# Altium schematic symbol library FS_Components.SchLib: 71 symbols
Pins are listed as number, name and electrical type; pins without a type are passive.

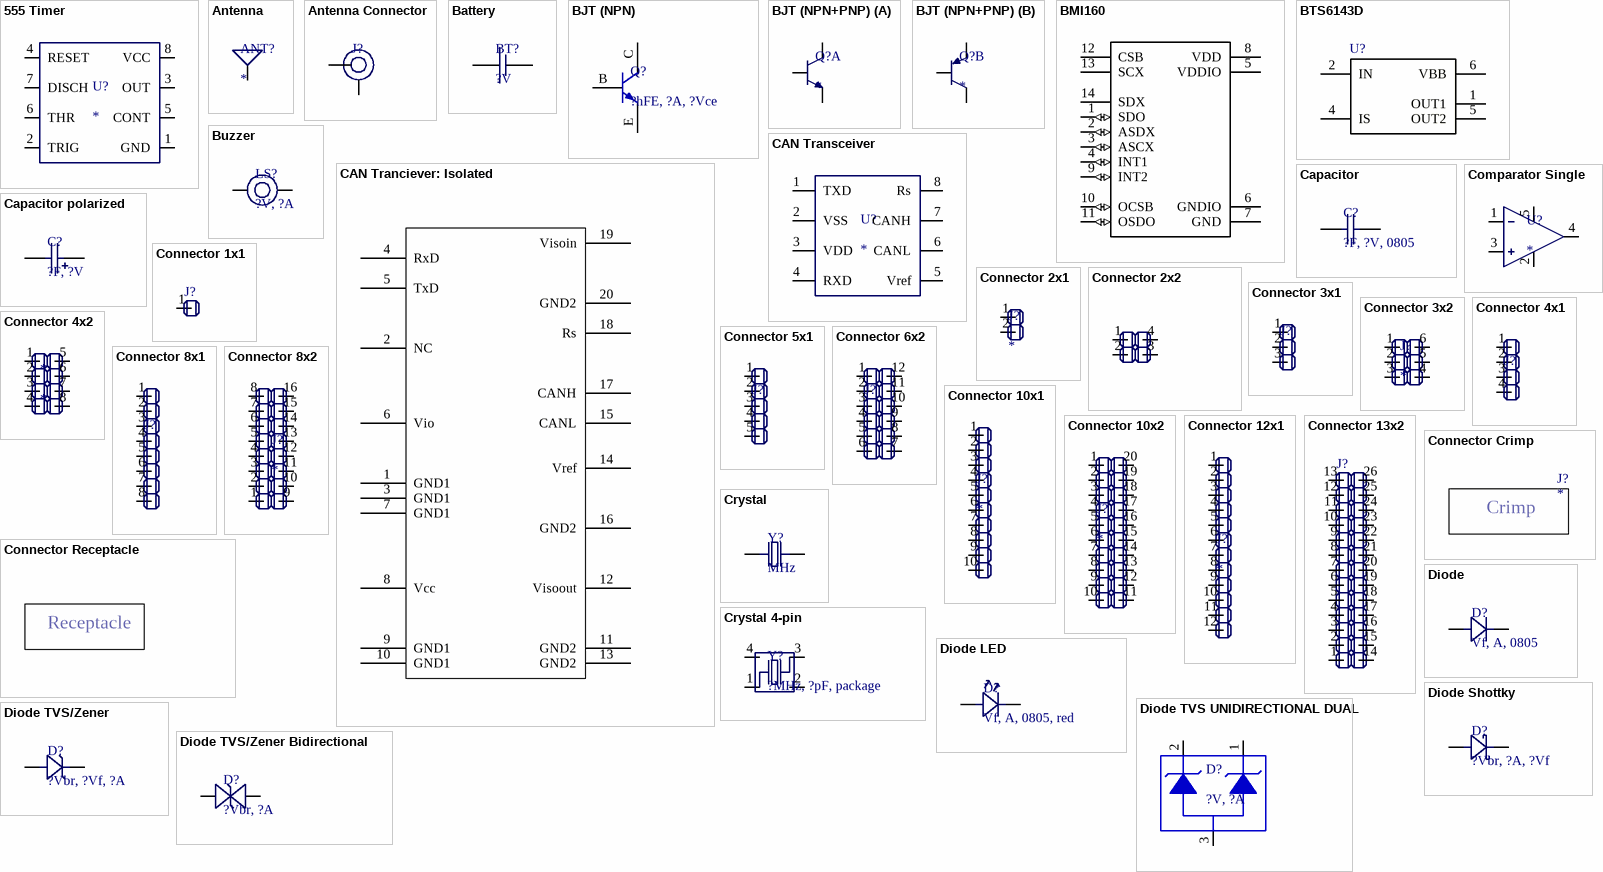
[diagram p0: symbols 555 Timer to Diode TVS/Zener Bidirectional]

## 555 Timer
designator U?
Manufacturer: *; Product Name: *; Supplier: *; Supplier Number: *; Notes: *; Datasheet: *; Price (1st level): *; Price (5th level): *; Order Step: *
footprint SOIC127P600X175-8N (SOIC, 8-Leads, Body 4,90x3,90mm, Pitch 1,27mm, IPC Medium Density)
pins: 1 GND, 2 TRIG, 3 OUT, 4 RESET, 5 CONT, 6 THR, 7 DISCH, 8 VCC

## Antenna
designator ANT?
Datasheet: *; Manufacturer: *; Notes: *; Order Step: *; Price (1st level): *; Price (5th level): *; Product Name: *; Supplier: *; Supplier Number: *
pins: 1

## Antenna Connector
designator J?, comment u.fl  (value not drawn)
Manufacturer: *; Product Name: *; Supplier: *; Supplier Number: *; Notes: *; Datasheet: *; Order Step: *; Price (1st level): *; Price (5th level): *
pins: 1 SHIELD, 2 ANTENNA

## Battery
designator BT?, comment ?V
Manufacturer: *; Product Name: *; Supplier: *; Supplier Number: *; Notes: *; Datasheet: *; Price (1st level): *; Price (5th level): *; Order Step: *
pins: 1, 2

## BJT (NPN)
designator Q?, comment ?hFE, ?A, ?Vce
Manufacturer: *; Product Name: *; Supplier Number: *; Supplier: *; Notes: *; Price (1st level): *; Order Step: *; Datasheet: *; Price (5th level): *
footprint SOT23 (SOT23, 3-Leads, Body 2.92x2.37mm, Pitch 0.95mm, IPC Medium Density); pin to pad B>1 C>3 E>2
pins: B 1, C 3, E 2

## BJT (NPN+PNP)
designator Q?
Manufacturer: *; Product Name: *; Supplier Number: *; Supplier: *; Notes: *; Datasheet: *; Order Step: *; Price (1st level): *; Price (5th level): *
footprint SOT363 (6-Leads, Body 2.20x2.20mm, Pitch 0.65mm, IPC Medium Density)
part A pins: 1, 2, 6
part B pins: 3, 4, 5

## BMI160
designator U?  (value not drawn)
BMI160 2.5 x 3 mm Tiaxial Accelerometer / Gyroscope Inertial Measurement Unit; Manufacturer: Bosch; Order Step: 1; Notes: *; Supplier: Mouser; Product Name: BMI160; Supplier Number: 262-BMI160; Price (1st level): 4,05; Datasheet: https://www.mouser.ee/datasheet/2/783/BST-BMI160-DS000-07-1366203.pdf; Price (5th level): *
footprint LGA14R50P5X4_300X250X83
pins: 1 SDO (io), 2 ASDX (io), 3 ASCX (io), 4 INT1 (io), 5 VDDIO (power), 6 GNDIO (power), 7 GND (power), 8 VDD (power), 9 INT2 (io), 10 OCSB (io), 11 OSDO (io), 12 CSB, 13 SCX, 14 SDX

## BTS6143D
designator U?  (value not drawn)
Smart Highside Power Switch; Manufacturer: Infineon Technologies; Product Name: BTS6143D; Notes: *; Supplier: *; Supplier Number: *; Datasheet: *; Order Step: *; Price (1st level): *; Price (5th level): *
footprint TO114P998X235-5_6N (TO,1.14mm pitch;5 pin,9.98mm L X 6.22mm W X 2.35mm H body)
pins: 1 OUT1 "Output", 2 IN "Input", 4 IS "Sense Output", 5 OUT2 "Output", 6 VBB (power) "Supply Voltage"

## Buzzer
designator LS?, comment ?V, ?A
Manufacturer: *; Product Name: *; Supplier Number: *; Datasheet: *; Notes: *; Order Step: *; Price (1st level): *; Price (5th level): *; Supplier: *
pins: 1, 2

## CAN Tranciever: Isolated
designator U?, comment ADM3053BRWZ
ADM3053; Manufacturer: Analog Devices; Order Step: 1; Product Name: ADM3053BRWZ; Supplier: Farnell; Supplier Number: 2062027; Notes: *; Price (1st level): 10,65; Datasheet: http://www.farnell.com/datasheets/2256433.pdf?_ga=2.227370079.378629459.1540395477-1558355126.1538409822&_gac=1.184423892.1538474180.Cj0KCQjwrszdBRDWARIsAEEYhrd_czSaC9e1GQxDbTcwinziIPOylKhzZsnKsywH3We8Heemuath-c4aAij9EALw_wcB; Price (5th level): 7,80
footprint SOIC-20 (SOIC, 20-Leads, Body 12.80x7.50mm, Pitch 1.27mm, IPC Medium Density)
pins: 1 GND1, 2 NC, 3 GND1, 4 RxD, 5 TxD, 6 Vio, 7 GND1, 8 Vcc, 9 GND1, 10 GND1, 11 GND2, 12 Visoout, 13 GND2, 14 Vref, 15 CANL, 16 GND2, 17 CANH, 18 Rs, 19 Visoin, 20 GND2

## CAN Transceiver
designator U?
Manufacturer: *; Product Name: *; Supplier: *; Supplier Number: *; Notes: *; Datasheet: *; Order Step: *; Price (1st level): *; Price (5th level): *
footprint SOIC127P600X175-8N (SOIC, 8-Leads, Body 4,90x3,90mm, Pitch 1,27mm, IPC Medium Density)
pins: 1 TXD, 2 VSS, 3 VDD, 4 RXD, 5 Vref, 6 CANL, 7 CANH, 8 Rs

## Capacitor
designator C?, comment ?F, ?V, 0805
Manufacturer: *; Product Name: *; Supplier Number: *; Supplier: *; Notes: *; Price (1st level): *; Order Step: *; Datasheet: *; Price (5th level): *
footprint CAP [0402] 1005
footprint CAP [0603] 1608
footprint CAP [0805] 2012
footprint CAP [1008] 2520
footprint CAP [1206] 3216
footprint CAP [1206] 3216 Tantalum (Chip Capacitor, 2-Leads, Body 3.20x1.65mm, IPC Medium Density)
footprint CAP [1210] 3225
footprint CAP [1806] 4516
footprint CAP [1812] 4532
footprint CAP [2010] 5025
footprint CAP [2512] 6332
footprint CAP [3216] 1206
footprint CAP [3225] 1210 (Chip Capacitor, 2-Leads, Body 3.20x2.50mm, IPC Medium Density)
footprint CAP [5650] 2220
pins: 1, 2

## Capacitor polarized
designator C?, comment ?F, ?V
Manufacturer: *; Product Name: *; Supplier Number: *; Supplier: *; Notes: *; Datasheet: *; Order Step: *; Price (1st level): *; Price (5th level): *
pins: 1, 2

## Comparator Single
designator U?
Manufacturer: *; Product Name: *; Price (1st level): *; Order Step: *; Supplier: *; Supplier Number: *; Notes: *; Datasheet: *; Price (5th level): *
pins: 1, 2, 3, 4, 5

## Connector 1x1
designator J?, comment 1-way connector  (value not drawn)
Manufacturer: *; Product Name: *; Supplier: *; Supplier Number: *; Notes: *; Datasheet: *; Order Step: *; Price (1st level): *; Price (5th level): *
footprint Pin Header 1x1 2.54mm
pins: 1

## Connector 2x1
designator J?
Datasheet: *; Manufacturer: *; Notes: *; Order Step: *; Price (1st level): *; Price (5th level): *; Product Name: *; Supplier: *; Supplier Number: *
pins: 1, 2

## Connector 2x2
designator J?
Manufacturer: *; Product Name: *; Price (1st level): *; Supplier: *; Supplier Number: *; Order Step: *; Notes: *; Datasheet: *; Price (5th level): *
pins: 1, 2, 3, 4

## Connector 3x1
designator J?  (value not drawn)
Manufacturer: *; Product Name: *; Supplier Number: *; Supplier: *; Notes: *; Price (1st level): *; Order Step: *; Datasheet: *; Price (5th level): *
pins: 1, 2, 3

## Connector 3x2
designator J?
Manufacturer: *; Product Name: *; Supplier: *; Supplier Number: *; Notes: *; Datasheet: *; Order Step: *; Price (1st level): *; Price (5th level): *
pins: 1, 2, 3, 4, 5, 6

## Connector 4x1
designator J?  (value not drawn)
Manufacturer: *; Product Name: *; Supplier: *; Supplier Number: *; Notes: *; Price (1st level): *; Order Step: *; Datasheet: *; Price (5th level): *
pins: 1, 2, 3, 4

## Connector 4x2
designator *
footprint Connector 43045-0800
pins: 1, 2, 3, 4, 5, 6, 7, 8

## Connector 5x1
designator J?  (value not drawn)
Manufacturer: *; Product Name: *; Supplier Number: *; Supplier: *; Notes: *; Price (1st level): *; Order Step: *; Datasheet: *; Price (5th level): *
pins: 1, 2, 3, 4, 5

## Connector 6x2
designator J?  (value not drawn)
Manufacturer: *; Product Name: *; Supplier: *; Supplier Number: *; Notes: *; Datasheet: *; Order Step: *; Price (1st level): *; Price (5th level): *
pins: 1, 2, 3, 4, 5, 6, 7, 8, 9, 10, 11, 12

## Connector 8x1
designator J?  (value not drawn)
Manufacturer: *; Product Name: *; Supplier Number: *; Datasheet: *; Notes: *; Order Step: *; Price (1st level): *; Price (5th level): *; Supplier: *
pins: 1, 2, 3, 4, 5, 6, 7, 8

## Connector 8x2
designator J?
Manufacturer: *; Product Name: *; Supplier: *; Supplier Number: *; Notes: *; Datasheet: *; Order Step: *; Price (1st level): *; Price (5th level): *
pins: 1, 2, 3, 4, 5, 6, 7, 8, 9, 10, 11, 12, 13, 14, 15, 16

## Connector 10x1
designator J?
Manufacturer: *; Supplier: *; Product Name: *; Notes: *; Supplier Number: *; Datasheet: *; Order Step: *; Price (1st level): *; Price (5th level): *
pins: 1, 2, 3, 4, 5, 6, 7, 8, 9, 10

## Connector 10x2
designator J?
Manufacturer: *; Product Name: *; Supplier: *; Supplier Number: *; Notes: *; Datasheet: *; Order Step: *; Price (1st level): *; Price (5th level): *
pins: 1, 2, 3, 4, 5, 6, 7, 8, 9, 10, 11, 12, 13, 14, 15, 16, 17, 18, 19, 20

## Connector 12x1
designator J?
Datasheet: *; Manufacturer: *; Notes: *; Order Step: *; Price (1st level): *; Price (5th level): *; Product Name: *; Supplier: *; Supplier Number: *
pins: 1, 2, 3, 4, 5, 6, 7, 8, 9, 10, 11, 12

## Connector 13x2
designator J?  (value not drawn)
Manufacturer: *; Product Name: *; Supplier Number: *; Datasheet: *; Notes: *; Order Step: *; Price (1st level): *; Price (5th level): *; Supplier: *
pins: 1, 2, 3, 4, 5, 6, 7, 8, 9, 10, 11, 12, 13, 14, 15, 16, 17, 18, 19, 20, 21, 22, 23, 24, 25, 26

## Connector Crimp
designator J?
Manufacturer: *; Product Name: *; Price (5th level): *; Order Step: *; Notes: *; Supplier: *; Supplier Number: *; Price (1st level): *; Datasheet: *
text: Crimp

## Connector Receptacle
designator J?
Manufacturer: *; Product Name: *; Price (5th level): *; Order Step: *; Notes: *; Supplier: *; Supplier Number: *; Price (1st level): *; Datasheet: *
text: Receptacle

## Crystal
designator Y?, comment MHz
Manufacturer: *; Product Name: *; Supplier Number: *; Datasheet: *; Notes: *; Order Step: *; Price (1st level): *; Price (5th level): *; Supplier: *
pins: 1, 2

## Crystal 4-pin
designator Y?, comment ?MHz, ?pF, package
Manufacturer: *; Product Name: *; Supplier: *; Supplier Number: *; Notes: *; Price (1st level): *; Order Step: *; Datasheet: *; Price (5th level): *
footprint Crystal 3.2x2.5mm (4-Leads, Body 2.50x3.20mm, Pitch 2.10mm, IPC Medium Density)
pins: 1, 2, 3, 4

## Diode
designator D?, comment Vf, A, 0805
Manufacturer: *; Supplier Number: *; Product Name: *; Supplier: *; Notes: *; Datasheet: *; Order Step: *; Price (1st level): *; Price (5th level): *
footprint SOD-323
footprint SOD-523 (Molded Diode, 2-Leads, Body 1,20x0,80mm, IPC Medium Density)
footprint DO-219AB (SODFL, 2-Leads, Body 1.90x4.00mm, IPC Medium Density)
footprint SOD-123
footprint SOD-128 (SODFL, 2-Leads, Body 2.70x5.00mm, IPC Medium Density)
footprint DO214AA (SMB)
footprint DO214AB (SMC)
footprint DO214AC (SMA)
footprint DO221AC
footprint DO-214AB(SMC) (Molded Diode, 2-Leads, Body 6.85x5.90mm, IPC Medium Density)
pins: 1, 2

## Diode LED
designator D?, comment Vf, A, 0805, red
Cathode (-) marked by silkscreen line; Manufacturer: *; Product Name: *; Supplier: *; Supplier Number: *; Notes: *; Price (1st level): *; Order Step: *; Datasheet: *; Price (5th level): *
footprint LED [0603] 1608 (Chip Diode, 2-Leads, Body 1.60x0.80mm, IPC Medium Density)
footprint LED [0805] 2012 (0805 Led, 2-Leads, Body 2,00x1,25mm, IPC Medium Density)
pins: 1, 2

## Diode Shottky
designator D?, comment ?Vbr, ?A, ?Vf
Manufacturer: *; Product Name: *; Supplier Number: *; Supplier: *; Notes: *; Price (1st level): *; Order Step: *; Datasheet: *; Price (5th level): *
footprint SOD-323
footprint SOD-523 (Molded Diode, 2-Leads, Body 1,20x0,80mm, IPC Medium Density)
footprint DO-219AB (SODFL, 2-Leads, Body 1.90x4.00mm, IPC Medium Density)
footprint SOD-123
footprint DPAK (TO252-3); pin to pad 1>2 2>3
footprint DPAK (for diodes) (2-pin version, pin 1 = K, pin 2 = A)
footprint SOD-128 (SODFL, 2-Leads, Body 2.70x5.00mm, IPC Medium Density)
footprint DO214AA (SMB)
footprint DO214AB (SMC)
footprint DO214AC (SMA)
footprint DO221AC
pins: 1, 2

## Diode TVS UNIDIRECTIONAL DUAL
designator D?, comment ?V, ?A
Dualunidirectional TVS; Manufacturer: *; Product Name: *; Supplier Number: *; Datasheet: *; Notes: *; Order Step: *; Price (1st level): *; Price (5th level): *; Supplier: *
footprint SOT95P245X110-3N (SOT23, 3-Leads, Body 2.90x2.45mm, Pitch 0.95mm, IPC Medium Density)
pins: 1, 2, 3

## Diode TVS/Zener
designator D?, comment ?Vbr, ?Vf, ?A
Manufacturer: *; Product Name: *; Supplier Number: *; Supplier: *; Notes: *; Price (1st level): *; Order Step: *; Datasheet: *; Price (5th level): *
footprint SOD-523 (Molded Diode, 2-Leads, Body 1,20x0,80mm, IPC Medium Density)
footprint SOD-323
footprint DO-219AB (SODFL, 2-Leads, Body 1.90x4.00mm, IPC Medium Density)
footprint SOD-123
footprint SOD-128 (SODFL, 2-Leads, Body 2.70x5.00mm, IPC Medium Density)
footprint DO214AA (SMB)
footprint DO214AB (SMC)
footprint DO214AC (SMA)
footprint DO221AC
pins: 1, 2

## Diode TVS/Zener Bidirectional
designator D?, comment ?Vbr, ?A
Manufacturer: *; Notes: *; Supplier: *; Product Name: *; Supplier Number: *; Datasheet: *; Order Step: *; Price (1st level): *; Price (5th level): *
footprint DO-219AB (SODFL, 2-Leads, Body 1.90x4.00mm, IPC Medium Density)
footprint SOD-123
footprint SOD-128 (SODFL, 2-Leads, Body 2.70x5.00mm, IPC Medium Density)
footprint SOD-323
footprint SOD-523 (Molded Diode, 2-Leads, Body 1,20x0,80mm, IPC Medium Density)
pins: 1, 2

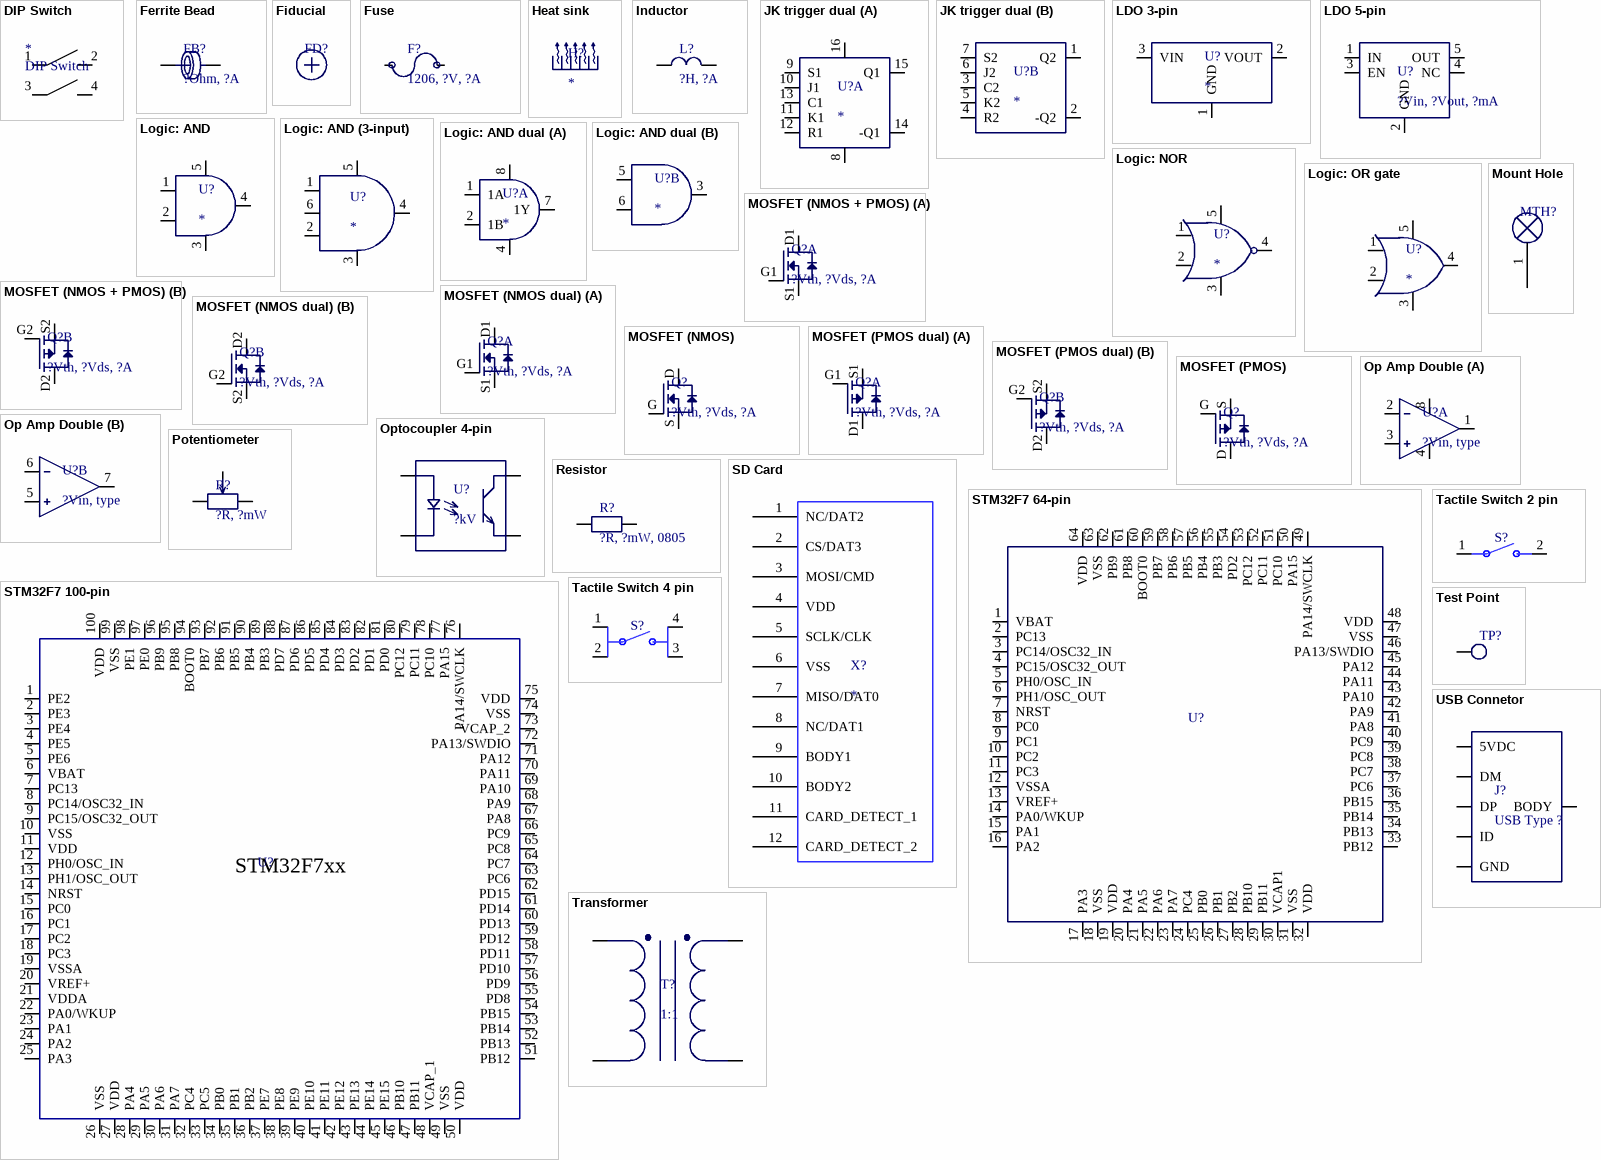
[diagram p1: symbols DIP Switch to USB Connetor]

## DIP Switch
designator *
pins: 1, 2, 3, 4

## Ferrite Bead
designator FB?, comment ?Ohm, ?A
Supplier Number: *; Manufacturer: *; Product Name: *; Datasheet: *; Notes: *; Order Step: *; Price (1st level): *; Price (5th level): *; Supplier: *
pins: 1, 2

## Fiducial
designator FD?  (value not drawn)
Notes: DNP; Manufacturer: *; Product Name: *; Supplier Number: *; Supplier: *; Datasheet: *; Order Step: *; Price (1st level): *; Price (5th level): *
footprint Fiducial

## Fuse
designator F?, comment 1206, ?V, ?A
Manufacturer: *; Supplier Number: *; Product Name: *; Supplier: *; Notes: *; Price (1st level): *; Order Step: *; Datasheet: *; Price (5th level): *
pins: 1, 2

## Heat sink
designator H?
Manufacturer: *; Product Name: *; Supplier Number: *; Datasheet: *; Notes: *; Order Step: *; Price (1st level): *; Price (5th level): *; Supplier: *

## Inductor
designator L?, comment ?H, ?A
Manufacturer: *; Product Name: *; Supplier Number: *; Supplier: *; Notes: *; Order Step: *; Price (1st level): *; Datasheet: *; Price (5th level): *
footprint IND [0402] 1005
footprint IND [0603] 1608
footprint IND [0805] 2012
footprint IND [1008] 2520
footprint IND [1210] 3225
footprint SDH2812 (Inductor)
pins: 1, 2

## JK trigger dual
designator U?
Manufacturer: *; Notes: *; Product Name: *; Supplier Number: *; Supplier: *; Datasheet: *; Order Step: *; Price (1st level): *; Price (5th level): *
part A pins: 8 GND, 9 S1, 10 J1, 11 K1, 12 R1, 13 C1, 14 -Q1, 15 Q1, 16 VDD
part B pins: 1 Q2, 2 -Q2, 3 C2, 4 R2, 5 K2, 6 J2, 7 S2

## LDO 3-pin
designator U?
Manufacturer: *; Product Name: *; Supplier: *; Supplier Number: *; Price (1st level): *; Order Step: *; Notes: *; Datasheet: *; Price (5th level): *
footprint SOT223 (SOT223, 4-Leads, Body 6.50x7.00mm (avg), Pitch 2.30mm, IPC Medium Density)
pins: 1 GND, 2 VOUT, 3 VIN

## LDO 5-pin
designator U?, comment ?Vin, ?Vout, ?mA
Manufacturer: *; Product Name: *; Supplier Number: *; Supplier: *; Notes: *; Price (1st level): *; Order Step: *; Datasheet: *; Price (5th level): *
footprint SOT23-5 (SOT23, 5-Leads, Body 3,05x3,00mm, Pitch 0,95mm, IPC Medium Density)
pins: 1 IN, 2 GND, 3 EN, 4 NC, 5 OUT

## Logic: AND
designator U?
2-input; Manufacturer: *; Product Name: *; Supplier Number: *; Datasheet: *; Notes: *; Order Step: *; Price (1st level): *; Price (5th level): *; Supplier: *
pins: 1 A, 2 B, 3 GND, 4 Y, 5 VCC

## Logic: AND (3-input)
designator U?
3-input; Manufacturer: *; Product Name: *; Supplier Number: *; Datasheet: *; Notes: *; Order Step: *; Price (1st level): *; Price (5th level): *; Supplier: *
pins: 1 A, 2 B, 3 GND, 4 Y, 5 VCC, 6 GND

## Logic: AND dual
designator U?
Manufacturer: *; Notes: *; Product Name: *; Supplier: *; Supplier Number: *; Datasheet: *; Order Step: *; Price (1st level): *; Price (5th level): *
part A pins: 1 1A, 2 1B, 4 GND, 7 1Y, 8 VCC
part B pins: 3 2Y, 5 2A, 6 2B

## Logic: NOR
designator U?
Manufacturer: *; Notes: *; Product Name: *; Supplier: *; Supplier Number: *; Datasheet: *; Order Step: *; Price (1st level): *; Price (5th level): *
footprint SOT95P285X130-5N (SOT23, 5-Leads, Body 3,00x2,85mm, Pitch 0,95mm, IPC Medium Density)
pins: 1 A, 2 B, 3 GND, 4 Y, 5 VCC

## Logic: OR gate
designator U?
Manufacturer: *; Product Name: *; Supplier Number: *; Datasheet: *; Notes: *; Order Step: *; Price (1st level): *; Price (5th level): *; Supplier: *
pins: 1 A, 2 B, 3 GND, 4 Y, 5 VCC

## MOSFET (NMOS + PMOS)
designator Q?, comment ?Vth, ?Vds, ?A
Manufacturer: *; Product Name: *; Supplier Number: *; Supplier: *; Notes: *; Datasheet: *; Order Step: *; Price (1st level): *; Price (5th level): *
footprint SOT95P245X110-6N (SOT23, 6-Leads, Body 2.90x2.45mm, Pitch 0.95mm, IPC Medium Density); pin to pad D1>6 D2>4 G1>1 G2>3 S1>5 S2>2
part A pins: D1 D, G1 G, S1 S
part B pins: D2 D, G2 G, S2 S

## MOSFET (NMOS dual)
designator Q?, comment ?Vth, ?Vds, ?A
Manufacturer: *; Product Name: *; Supplier Number: *; Supplier: *; Notes: *; Datasheet: *; Order Step: *; Price (1st level): *; Price (5th level): *
footprint SOT363 (6-Leads, Body 2.20x2.20mm, Pitch 0.65mm, IPC Medium Density); pin to pad D1>6 D2>3 G1>2 G2>5 S1>1 S2>4
footprint SOT65P210X110-6N (SOT23, 6-Leads, Body 2,00x2,10mm, Pitch 0,65mm, IPC Medium Density); pin to pad D1>6 D2>3 G1>2 G2>5 S1>1 S2>4
part A pins: D1, G1, S1
part B pins: D2, G2, S2

## MOSFET (NMOS)
designator Q?, comment ?Vth, ?Vds, ?A
Manufacturer: *; Supplier Number: *; Product Name: *; Supplier: *; Notes: *; Price (5th level): *; Order Step: *; Datasheet: *; Price (1st level): *
footprint SOT95P245X110-3N (SOT23, 3-Leads, Body 2.90x2.45mm, Pitch 0.95mm, IPC Medium Density); pin to pad D>3 G>1 S>2
footprint DPAK (TO252-3); pin to pad D>2 G>1 S>3
footprint SOT223 (SOT223, 4-Leads, Body 6.50x7.00mm (avg), Pitch 2.30mm, IPC Medium Density); pin to pad D>2 G>1 S>3
footprint DPAK229P991X239-3N (D-PAK, 3-Pads, Body 6,21x6,73mm (max), IPC Medium Density); pin to pad D>2 G>1 S>3
footprint SOT23 (SOT23, 3-Leads, Body 2.92x2.37mm, Pitch 0.95mm, IPC Medium Density); pin to pad D>3 G>1 S>2
pins: D, G (hiz), S

## MOSFET (PMOS dual)
designator Q?, comment ?Vth, ?Vds, ?A
Manufacturer: *; Product Name: *; Supplier Number: *; Supplier: *; Notes: *; Datasheet: *; Order Step: *; Price (1st level): *; Price (5th level): *
footprint SOT363 (6-Leads, Body 2.20x2.20mm, Pitch 0.65mm, IPC Medium Density); pin to pad D1>6 D2>3 G1>2 G2>5 S1>1 S2>4
part A pins: D1 D, G1 G, S1 S
part B pins: D2 D, G2 G, S2 S

## MOSFET (PMOS)
designator Q?, comment ?Vth, ?Vds, ?A
Manufacturer: *; Product Name: *; Supplier Number: *; Supplier: *; Notes: *; Datasheet: *; Order Step: *; Price (1st level): *; Price (5th level): *
footprint SOT95P245X110-3N (SOT23, 3-Leads, Body 2.90x2.45mm, Pitch 0.95mm, IPC Medium Density); pin to pad D>3 G>1 S>2
footprint SOT223 (SOT223, 4-Leads, Body 6.50x7.00mm (avg), Pitch 2.30mm, IPC Medium Density); pin to pad D>2 G>1 S>3
footprint SOT95P237X112-3N (SOT23, 3-Leads, Body 2,92x2,37mm, Pitch 0,95mm, IPC Medium Density); pin to pad D>3 G>1 S>2
footprint TO-252 (D-PAK, 3-Pads, Body 6.21x6.73mm (max), IPC Medium Density); pin to pad D>2 G>1 S>3
pins: D, G, S

## Mount Hole
designator MTH?  (value not drawn)
pins: 1

## Op Amp Double
designator U?, comment ?Vin, type
Manufacturer: *; Product Name: *; Supplier Number: *; Supplier: *; Notes: *; Price (1st level): *; Order Step: *; Datasheet: *; Price (5th level): *
footprint SOIC127P600X175-8N (SOIC, 8-Leads, Body 5,0x4,0mm (max), Pitch 1,27mm, IPC Medium Density)
footprint MSOP8 (Mini SOIC, 8-Leads, Body 3.20x3.10mm, Pitch 0.65mm, IPC Medium Density)
part A pins: 1, 2, 3, 4, 8
part B pins: 5, 6, 7

## Optocoupler 4-pin
designator U?, comment ?kV
Manufacturer: *; Product Name: *; Supplier Number: *; Supplier: *; Notes: *; Datasheet: *; Order Step: *; Price (1st level): *; Price (5th level): *
pins: 1, 2, 3, 4

## Potentiometer
designator R?, comment ?R, ?mW
Manufacturer: *; Product Name: *; Supplier Number: *; Supplier: *; Notes: *; Price (1st level): *; Order Step: *; Datasheet: *; Price (5th level): *
footprint Potentiometer SMD
pins: 1, 2, 3

## Resistor
designator R?, comment ?R, ?mW, 0805
Manufacturer: *; Product Name: *; Supplier Number: *; Supplier: *; Notes: *; Price (1st level): *; Order Step: *; Datasheet: *; Price (5th level): *
footprint RES [0402] 1005 (Chip Resistor, 2-Leads, Body 1.00x0.50mm, IPC High Density)
footprint RES [0603] 1608
footprint RES [0805] 2012
footprint RES [1206] 3216
footprint RES [1210] 3225
footprint RES [1812] 4532
footprint RES [2010] 5025
footprint RES [2512] 6332
footprint RES [3216] 1206
pins: 1, 2

## SD Card
designator X?
Manufacturer: *; Product Name: *; Supplier Number: *; Datasheet: *; Notes: *; Order Step: *; Price (1st level): *; Price (5th level): *; Supplier: *
footprint Connector Micro SD
pins: 1 NC/DAT2, 2 CS/DAT3, 3 MOSI/CMD, 4 VDD, 5 SCLK/CLK, 6 VSS, 7 MISO/DAT0, 8 NC/DAT1, 9 BODY1, 10 BODY2, 11 CARD_DETECT_1, 12 CARD_DETECT_2

## STM32F7 64-pin
designator U?, comment STM32F4 64-pin  (value not drawn)
Manufacturer: STMICROELECTRONICS; Product Name: STM32F732RET6; Order Step: 1; Supplier Number: 2758797; Datasheet: http://www.farnell.com/datasheets/2283389.pdf?_ga=2.235234499.378629459.1540395477-1558355126.1538409822&_gac=1.123065593.1538474180.Cj0KCQjwrszdBRDWARIsAEEYhrd_czSaC9e1GQxDbTcwinziIPOylKhzZsnKsywH3We8Heemuath-c4aAij9EALw_wcB; Notes: *; Price (1st level): 9,81; Price (5th level): 6,86; Supplier: Farnell
footprint LQFP64
pins: 1 VBAT, 2 PC13, 3 PC14/OSC32_IN, 4 PC15/OSC32_OUT, 5 PH0/OSC_IN, 6 PH1/OSC_OUT, 7 NRST, 8 PC0, 9 PC1, 10 PC2, 11 PC3, 12 VSSA, 13 VREF+, 14 PA0/WKUP, 15 PA1, 16 PA2, 17 PA3, 18 VSS, 19 VDD, 20 PA4, 21 PA5, 22 PA6, 23 PA7, 24 PC4, 25 PB0, 26 PB1, 27 PB2, 28 PB10, 29 PB11, 30 VCAP1, 31 VSS, 32 VDD, 33 PB12, 34 PB13, 35 PB14, 36 PB15, 37 PC6, 38 PC7, 39 PC8, 40 PC9, 41 PA8, 42 PA9, 43 PA10, 44 PA11, 45 PA12, 46 PA13/SWDIO, 47 VSS, 48 VDD, 49 PA14/SWCLK, 50 PA15, 51 PC10, 52 PC11, 53 PC12, 54 PD2, 55 PB3, 56 PB4, 57 PB5, 58 PB6, 59 PB7, 60 BOOT0, 61 PB8, 62 PB9, 63 VSS, 64 VDD

## STM32F7 100-pin
designator U?  (value not drawn)
Manufacturer: STMICROELECTRONICS; Product Name: STM32F767VIT6; Order Step: 1; Notes: *; Supplier: Farnell; Supplier Number: 2535500; Datasheet: http://www.farnell.com/datasheets/2282439.pdf?_ga=2.25716735.378629459.1540395477-1558355126.1538409822&_gac=1.15201732.1538474180.Cj0KCQjwrszdBRDWARIsAEEYhrd_czSaC9e1GQxDbTcwinziIPOylKhzZsnKsywH3We8Heemuath-c4aAij9EALw_wcB; Price (1st level): 12,81; Price (5th level): 9,55
footprint LQFP100 (LQFP, 100-Leads, Body 16,2x16,2mm (max), Pitch 0,50mm, IPC Medium Density)
pins: 1 PE2, 2 PE3, 3 PE4, 4 PE5, 5 PE6, 6 VBAT, 7 PC13, 8 PC14/OSC32_IN, 9 PC15/OSC32_OUT, 10 VSS, 11 VDD, 12 PH0/OSC_IN, 13 PH1/OSC_OUT, 14 NRST, 15 PC0, 16 PC1, 17 PC2, 18 PC3, 19 VSSA, 20 VREF+, 21 VDDA, 22 PA0/WKUP, 23 PA1, 24 PA2, 25 PA3, 26 VSS, 27 VDD, 28 PA4, 29 PA5, 30 PA6, 31 PA7, 32 PC4, 33 PC5, 34 PB0, 35 PB1, 36 PB2, 37 PE7, 38 PE8, 39 PE9, 40 PE10, 41 PE11, 42 PE12, 43 PE13, 44 PE14, 45 PE15, 46 PB10, 47 PB11, 48 VCAP_1, 49 VSS, 50 VDD, 51 PB12, 52 PB13, 53 PB14, 54 PB15, 55 PD8, 56 PD9, 57 PD10, 58 PD11, 59 PD12, 60 PD13, 61 PD14, 62 PD15, 63 PC6, 64 PC7, 65 PC8, 66 PC9, 67 PA8, 68 PA9, 69 PA10, 70 PA11, 71 PA12, 72 PA13/SWDIO, 73 VCAP_2, 74 VSS, 75 VDD, 76 PA14/SWCLK, 77 PA15, 78 PC10, 79 PC11, 80 PC12, 81 PD0, 82 PD1, 83 PD2, 84 PD3, 85 PD4, 86 PD5, 87 PD6, 88 PD7, 89 PB3, 90 PB4, 91 PB5, 92 PB6, 93 PB7, 94 BOOT0, 95 PB8, 96 PB9, 97 PE0, 98 PE1, 99 VSS, 100 VDD
text: STM32F7xx

## Tactile Switch 2 pin
designator S?  (value not drawn)
Manufacturer: *; Product Name: *; Notes: *; Supplier: *; Supplier Number: *; Price (1st level): *; Order Step: *; Datasheet: *; Price (5th level): *
footprint Tactile Switch 2
pins: 1, 2

## Tactile Switch 4 pin
designator S?  (value not drawn)
Manufacturer: *; Product Name: *; Supplier Number: *; Datasheet: *; Notes: *; Order Step: *; Price (1st level): *; Price (5th level): *; Supplier: *
footprint Tactile Switch 4-pin
pins: 1, 2, 3, 4

## Test Point
designator TP?  (value not drawn)
Manufacturer: *; Supplier Number: *; Product Name: *; Datasheet: *; Notes: *; Order Step: *; Price (1st level): *; Price (5th level): *; Supplier: *
footprint Testpoint round 0.4mm
footprint Testpoint round 1.0mm
footprint Testpoint Round 2.0mm
pins: 1 TEST

## Transformer
designator T?, comment 1:1
Manufacturer: *; Product Name: *; Supplier Number: *; Datasheet: *; Notes: *; Order Step: *; Price (1st level): *; Price (5th level): *; Supplier: *
pins: 1, 2, 13, 14

## USB Connetor
designator J?, comment USB Type ?
Manufacturer: *; Product Name: *; Supplier: *; Supplier Number: *; Notes: *; Price (1st level): *; Order Step: *; Datasheet: *; Price (5th level): *
footprint Connector Mini USB
footprint Connector Micro USB type AB
footprint Connector Micro USB type B
pins: 1 5VDC, 2 DM, 3 DP, 4 ID, 5 GND, 6 BODY